# Altium footprint library S1MFL.PCBLIB: 1 footprints
Each footprint in its own frame and in the unit in brackets; x right, y up, seen from the top. Pads: shape width x height; smd on the part's side, far side on the other; paste and mask are expansions set on the pad; w line width, h text height; cw(c..) or ccw(c..) is an arc to the next point about the centre after c.
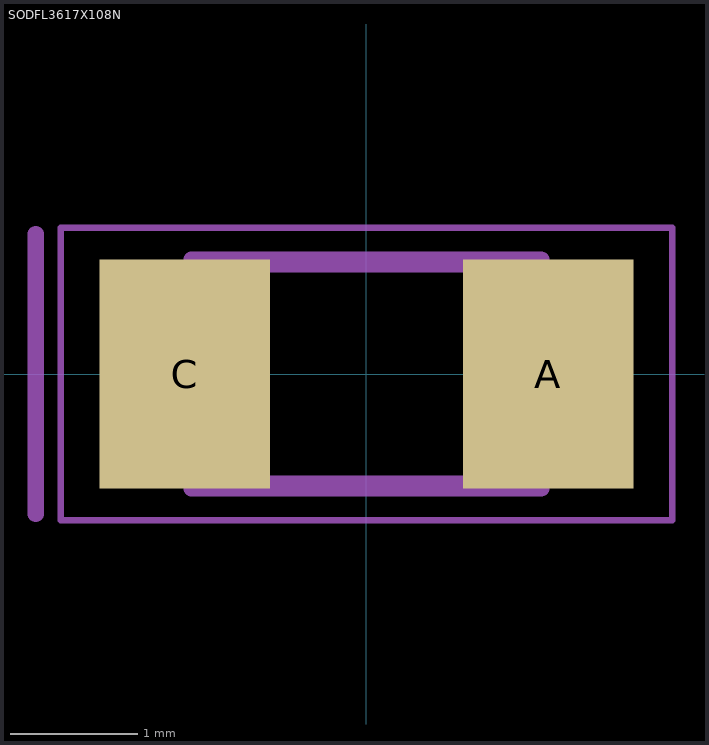
[diagram p0: the footprint, top view; thin cyan lines are the x and y axes]

## SODFL3617X108N [mm]
pads (2):
  rect 1.34x1.8 smd: A(1.43,0) C(-1.43,0)
tDocu:
  lines w0.127: -1.375,-0.863 -1.375,0.863 1.375,0.863 1.375,-0.863 -1.375,-0.863
tPlace:
  lines w0.05: -2.405,-1.15 -2.405,1.15 2.405,1.15 2.405,-1.15 -2.405,-1.15
  lines w0.127: -2.6,-1.1 -2.6,1.1 ; -1.375,-0.9 1.375,-0.9 ; -1.375,0.9 1.375,0.9